# EAGLE library part TDA7384 (library TDA7384)
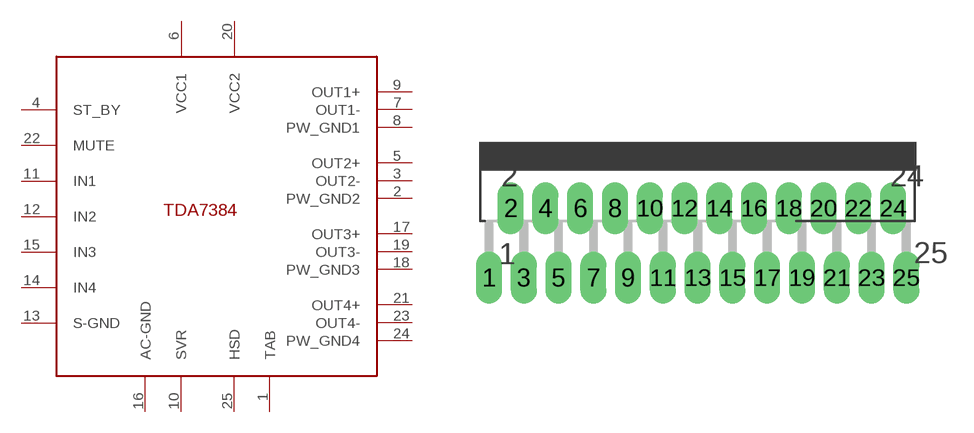
[diagram p0: symbol with the pads of FLEXIWATT25; footprint FLEXIWATT25]

Designator prefix -

## TDA7384  [FLEXIWATT25]
1  TAB
2  PW_GND2
3  OUT2-
4  ST_BY
5  OUT2+
6  VCC1
7  OUT1-
8  PW_GND1
9  OUT1+
10  SVR
11  IN1
12  IN2
13  S-GND
14  IN4
15  IN3
16  AC-GND
17  OUT3+
18  PW_GND3
19  OUT3-
20  VCC2
21  OUT4+
22  MUTE
23  OUT4-
24  PW_GND4
25  HSD

## Footprint FLEXIWATT25 (pad centres in mm)
drill 1.016 pad 1.27 long: 1 -16.51,-1.54; 2 -15.24,2.54; 3 -14.47,-1.54; 4 -13.2,2.54; 5 -12.43,-1.54; 6 -11.16,2.54; 7 -10.39,-1.54; 8 -9.12,2.54; 9 -8.35,-1.54; 10 -7.08,2.54; 11 -6.31,-1.54; 12 -5.04,2.54; 13 -4.27,-1.54; 14 -3,2.54; 15 -2.23,-1.54; 16 -0.96,2.54; 17 -0.19,-1.54; 18 1.08,2.54; 19 1.85,-1.54; 20 3.12,2.54; 21 3.89,-1.54; 22 5.16,2.54; 23 5.93,-1.54; 24 7.2,2.54; 25 7.97,-1.54